# Altium schematic symbol library Schematic_Mounting.SchLib: 1 symbol
Pins are listed as number, name and electrical type; pins without a type are passive.

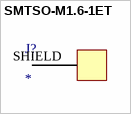
[diagram p0: symbol SMTSO-M1.6-1ET]

## SMTSO-M1.6-1ET
designator J?
Standoff Round F M1.6 X 0.35-THD 3.18mm-A/F Carbon Steel Electro-Bright Tin ASTM B 545; Manufacturer: PennEngineering; Manufacturer Part Number: SMTSO-M1.6-1ET; Supplier 1: Mouser; RoHS: No; Category: LDO; Stock 1: 866; Pricing 1: 1=0.96, 10=0.678, 50=0.678, 100=0.543, 500=0.489, 1000=0.454, 3500=0.441, 7000=0.415, 10000=0.415, 24500=0.406 (USD)
footprint SMTSO-M1.6-1ET (M1.6 1mm Standoffs & Spacers SURFACE MOUNT STANDOFF)
pins: SHIELD